# Altium footprint library Library.PcbLib: 106 footprints (part 1 of 7)
Each footprint in its own frame and in the unit in brackets; x right, y up, seen from the top. Pads: shape width x height; smd on the part's side, far side on the other; paste and mask are expansions set on the pad; w line width, h text height; cw(c..) or ccw(c..) is an arc to the next point about the centre after c.
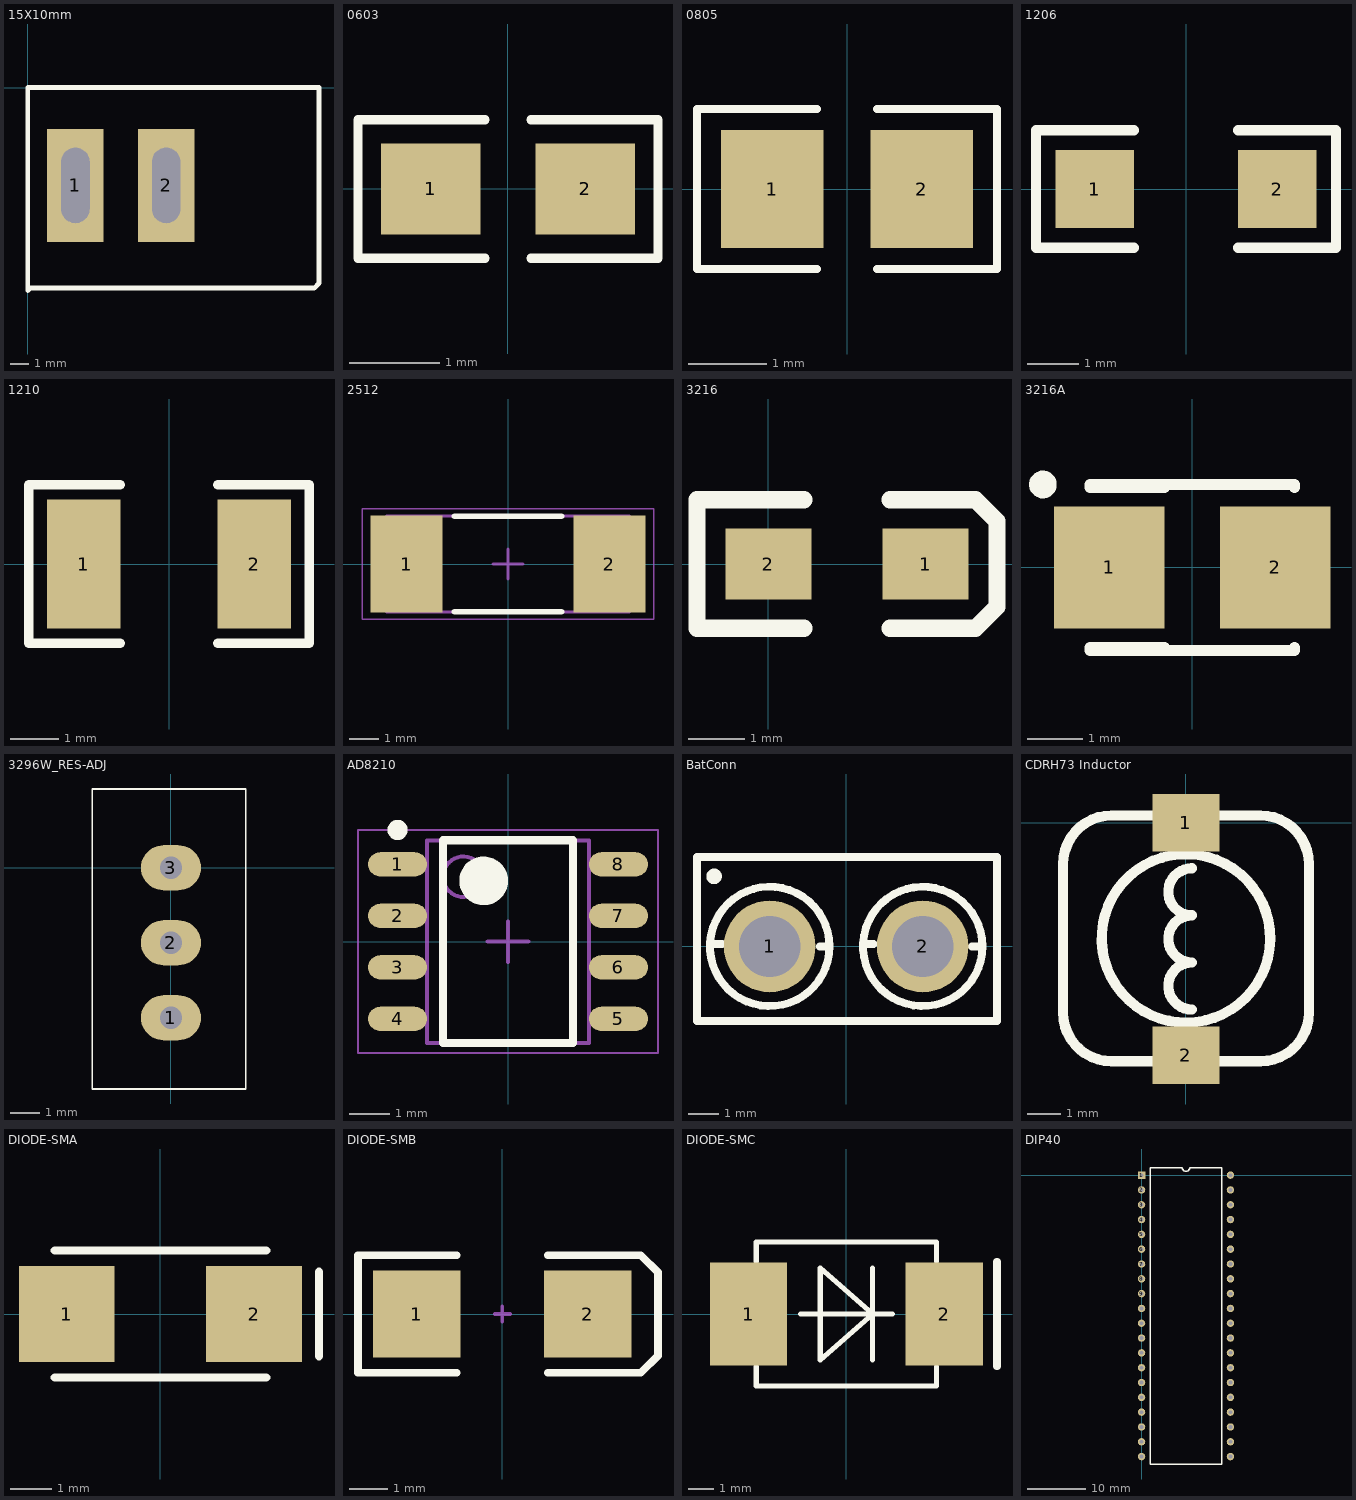
[diagram p0: the footprints below, top view; thin cyan lines are the x and y axes]

## 15X10mm [mm] "小船型开关"
pads (2):
  rect 3x6 hole 1.5 slot 4 at 90 deg: 1(2.54,-5.207)
  rect 3x6 / inner rect 3x6 / far side oval 3x6 hole 1.5 slot 4 at 90 deg: 2(7.366,-5.207)
Top Overlay:
  lines w0.254: 0,-10.795 0.127,-10.668 15.24,-10.668 15.494,-10.414 15.494,0 0,0 0,-10.795

## 0603 [mm] "贴片带丝印"
height 0.6
pads (2):
  rect 1.1x1 smd: 1(-0.85,0) 2(0.85,0)
Top Overlay:
  lines w0.1: -0.254,-0.762 -1.651,-0.762 -1.651,0.762 -0.254,0.762 ; 0.254,-0.762 1.651,-0.762 1.651,0.762 0.254,0.762
3D body: height 1, standoff 0, extent -1.143,-0.381 1.143,0.381

## 0805 [mm] "贴片带丝印"
height 1.1
pads (2):
  rect 1.3x1.5 smd: 1(-0.95,0) 2(0.95,0)
Top Overlay:
  lines w0.1: -0.381,-1.016 -1.905,-1.016 -1.905,1.016 -0.381,1.016 ; 0.381,-1.016 1.905,-1.016 1.905,1.016 0.381,1.016
3D body: height 1, standoff 0, extent -1.016,-0.508 1.016,0.508
3D body: height 1, standoff 0, extent 1.016,-0.508 1.143,0.508
3D body: height 1, standoff 0, extent -1.143,-0.508 -1.016,0.508

## 1206 [mil] "贴片元件"
height 59.06
pads (2):
  rect 60x60 smd: 1(-70,0) 2(70,0)
Top Overlay:
  lines w7.87: -40,-45 -115,-45 -115,45 -40,45 ; 40,-45 115,-45 115,45 40,45
3D body: height 39.37, standoff 0, extent -75,-35 -55,35
3D body: height 39.37, standoff 0, extent 55,-35 75,35
3D body: height 39.37, standoff 0, extent -55,-35 55,35

## 1210 [mil]
pads (2):
  rect 60x106.3 smd: 1(-70,0) 2(70,0)
Top Overlay:
  lines w7.87: -40,-65 -115,-65 -115,65 -40,65 ; 40,-65 115,-65 115,65 40,65

## 2512 [mm] "Molded Capacitor, 2-Leads, Body 8.13x3.20mm, IPC Medium Density"
height 0.65
pads (2):
  rect 2.4x3.25 smd: 1(-3.4,0) 2(3.4,0)
Top Overlay:
  lines w0.2: -1.8,-1.6 1.8,-1.6 ; -1.8,1.6 1.8,1.6
Mechanical 13:
  lines w0.1: -4.065,-1.6 4.065,-1.6 4.065,1.6 -4.065,1.6 -4.065,-1.6
Mechanical 15:
  lines w0.05: -4.875,-1.85 4.875,-1.85 4.875,1.85 -4.875,1.85 -4.875,-1.85
  lines w0.1: -0.5,0 0.5,0 ; 0,-0.5 0,0.5
3D body: height 0.65, standoff 0, extent -4.065,-1.6 4.065,1.6

## 3216 [mil]
pads (2):
  rect 60x50 smd: 1(110,0) 2(0,0)
Top Overlay:
  lines w12: 25,-45 -50,-45 -50,45 25,45 ; 85,-45 145,-45 160,-30 160,30 145,45 85,45

## 3216A [mm] "A型有极性电容"
height 2.5
pads (2):
  rect 2x2.2 smd: 1(-1.5,0) 2(1.5,0)
Top Overlay:
  circle w0.25: c-2.7,1.5 r0.125
  lines w0.2: -1.85,-1.5 1.85,-1.5 1.85,-1.45 ; -1.85,-1.45 -0.5,-1.45 ; -1.85,1.45 -0.5,1.45 ; -1.85,1.5 1.85,1.5 1.85,1.45

## 3296W_RES-ADJ [mm] "滑动变阻器"
height 1.1
pads (3):
  oval 2.033x1.525 hole 0.75: 1(0,-5.08) 2(0,-2.54) 3(0,0)
Top Overlay:
  lines w0.06: -2.667,-7.493 -2.667,2.667 2.533,2.667 2.533,-7.493 -2.667,-7.493
Bottom Overlay:
  lines w0.254: 0.254,-0.635 0.254,0.635

## AD8210 [mm] "SOIC, 8-Leads, Body 4.90x3.90mm, Pitch 1.27mm, IPC Medium Density"
height 1.75
pads (8):
  oval 1.45x0.6 smd: 1(-2.725,1.905) 2(-2.725,0.635) 3(-2.725,-0.635) 4(-2.725,-1.905) 5(2.725,-1.905) 6(2.725,-0.635) 7(2.725,0.635) 8(2.725,1.905)
Top Overlay:
  circle w0.6: c-0.6,1.5 r0.3
  circle w0.25: c-2.725,2.755 r0.125
  lines w0.2: -1.6,-2.5 1.6,-2.5 1.6,2.5 -1.6,2.5 -1.6,-2.5
Mechanical 13:
  circle w0.1: c-1.1,1.6 r0.5
  lines w0.1: -2,-2.5 2,-2.5 2,2.5 -2,2.5 -2,-2.5
Mechanical 15:
  lines w0.05: -3.7,-2.75 3.7,-2.75 3.7,2.75 -3.7,2.75 -3.7,-2.75
  lines w0.1: -0.5,0 0.5,0 ; 0,-0.5 0,0.5
3D body: height 1.75, standoff 0.1, extent -2,-2.5 2,2.5

## BatConn [mm]
pads (2):
  round 3 hole 2: 1(-2.5,0) 2(2.5,0)
Top Overlay:
  circle w0.254: c2.5,0 r1.951
  circle w0.254: c-2.5,0 r1.952
  lines w0.254: -4.369,0.076 -4.064,0.076 ; -4.198,2.246 cw(c-4.318,2.286) -4.191,2.286 ; -0.864,0 -0.548,0 ; 0.61,0.076 0.889,0.076 ; 4.115,0 4.451,0 ; 4.826,2.921 4.445,2.921 -4.877,2.921 -4.877,-2.438 4.928,-2.438 4.928,2.921

## CDRH73 Inductor [mm] "贴片电感 7*7*3MM 屏蔽功率电感"
pads (2):
  rect 2x1.7 smd: 1(0,0) 2(0,-6.904)
Top Overlay:
  lines w0.305: 0.176,-5.544 cw(c0.176,-4.845) 0.176,-4.147 cw(c0.176,-3.448) 0.176,-2.75 cw(c0.176,-2.052) 0.176,-1.353 ; 2.271,-2.39 ccw(c-0.001,-3.434) 2.276,-2.402 ; -3.649,-5.635 ccw(c-2.201,-5.635) -2.201,-7.083 2.203,-7.083 ccw(c2.203,-5.635) 3.651,-5.635 3.651,-1.231 ccw(c2.203,-1.231) 2.203,0.217 -2.201,0.217 ccw(c-2.201,-1.231) -3.649,-1.231 -3.649,-5.635

## DIODE-SMA [mm] "贴片二极管"
height 2.54
pads (2):
  rect 2.3x2.3 smd: 1(-2.25,0) 2(2.25,0)
Top Overlay:
  lines w0.2: -2.54,-1.524 2.54,-1.524 ; -2.54,1.524 2.54,1.524 ; 3.81,-1.016 3.81,1.016
3D body: height 3, standoff 0, extent -2.921,-1.397 2.921,1.397

## DIODE-SMB [mm] "DO-214-AA/SMB; 2 C-Bend Leads; Body 5.3 x 3.6 mm, inc. leads (LxW)"
height 2.54
pads (2):
  rect 2.3x2.3 smd: 1(-2.25,0) 2(2.25,0)
Top Overlay:
  lines w0.2: -1.2,-1.55 -3.8,-1.55 -3.8,1.55 -1.2,1.55 ; 1.2,-1.55 3.65,-1.55 4.1,-1.1 4.1,1.1 3.65,1.55 1.2,1.55
Mechanical 1:
  lines w0.1: -0.2,0 0.2,0 ; 0,-0.2 0,0.2

## DIODE-SMC [mm] "贴片二极管"
height 1.5
pads (2):
  rect 3x4 smd: 1(-3.8,0) 2(3.8,0)
Top Overlay:
  lines w0.2: -3.5,-2.032 -3.5,-2.794 3.5,-2.794 3.5,-2.032 ; -3.5,2.032 -3.5,2.794 3.5,2.794 3.5,2.032 ; -1.778,0 1.778,0 ; 1.016,-1.778 1.016,1.778 ; -1.016,-1.778 -1.016,1.778 1.016,0 -1.016,-1.778
  lines w0.3: 5.842,-2.032 5.842,2.032
3D body: height 0.8, standoff 0, extent -3.81,-1.905 -3.429,1.905
3D body: height 0.8, standoff 0, extent 3.556,-1.905 3.937,1.905
3D body: height 1, standoff 0, extent -3.429,-2.794 3.556,2.794
3D body: height 1.05, standoff 1, extent 2.921,-2.794 3.429,2.794

## DIP40 [mm]
pads (40):
  rect 1.27x1.27 hole 0.635: 1(0,0)
  round 1.27 hole 0.635: 2(0,-2.54) 3(0,-5.08) 4(0,-7.62) 5(0,-10.16) 6(0,-12.7) 7(0,-15.24) 8(0,-17.78) 9(0,-20.32) 10(0,-22.86) 11(0,-25.4) 12(0,-27.94) 13(0,-30.48) 14(0,-33.02) 15(0,-35.56) 16(0,-38.1) 17(0,-40.64) 18(0,-43.18) 19(0,-45.72) 20(0,-48.26) 21(15.24,-48.26) 22(15.24,-45.72) 23(15.24,-43.18) 24(15.24,-40.64) 25(15.24,-38.1) 26(15.24,-35.56) 27(15.24,-33.02) 28(15.24,-30.48) 29(15.24,-27.94) 30(15.24,-25.4) 31(15.24,-22.86) 32(15.24,-20.32) 33(15.24,-17.78) 34(15.24,-15.24) 35(15.24,-12.7) 36(15.24,-10.16) 37(15.24,-7.62) 38(15.24,-5.08) 39(15.24,-2.54) 40(15.24,0)
Top Overlay:
  lines w0.254: 1.524,-49.53 13.716,-49.53 13.716,1.27 8.255,1.27 cw(c7.62,1.27) 6.985,1.27 1.524,1.27 1.524,-49.53